# EAGLE library part 61302025721 (library Eagle_BOARD-TO-BOARD_CONNECTORS (rev18b))
WR-PHD 2.54mm Dual Socket Header Bottom Entry, 20 Pins =>Code : Con_BTB_SHD_2.54_2_61302025721 <http://katalog.we-online.de/media/images/eican/Con_BTB_SHD_2.54_2_6130xx25721_pf2.jpg> Details see: http://katalog.we-online.de/en/em/613_0xx_257_21 Created 2014-05-30, Karrer Zheng 2014 (C) Würth Elektronik
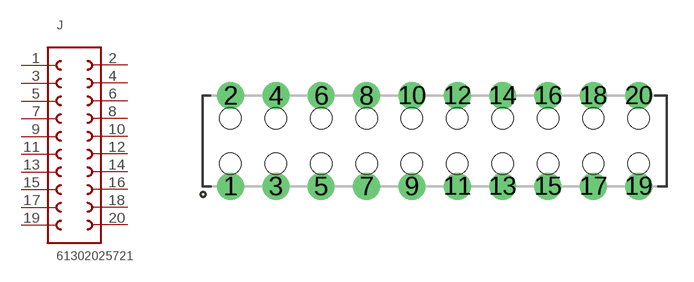
[diagram p157: symbol with the pads of 61302025721; footprint 61302025721]

Designator prefix J

## 61302025721  [61302025721]
1  1  pas
2  20  pas
3  2  pas
4  19  pas
5  3  pas
6  18  pas
7  4  pas
8  17  pas
9  5  pas
10  16  pas
11  6  pas
12  15  pas
13  7  pas
14  14  pas
15  8  pas
16  13  pas
17  9  pas
18  12  pas
19  10  pas
20  11  pas

## Footprint 61302025721 (pad centres in mm)
WR-PHD 2.54mm Dual Socket Header Bottom Entry, 20 Pins
drill 1 pad 1.4: 1 -11.43,-2.54; 2 -11.43,2.54; 3 -8.89,-2.54; 4 -8.89,2.54; 5 -6.35,-2.54; 6 -6.35,2.54; 7 -3.81,-2.54; 8 -3.81,2.54; 9 -1.27,-2.54; 10 -1.27,2.54; 11 1.27,-2.54; 12 1.27,2.54; 13 3.81,-2.54; 14 3.81,2.54; 15 6.35,-2.54; 16 6.35,2.54; 17 8.89,-2.54; 18 8.89,2.54; 19 11.43,-2.54; 20 11.43,2.54
hole 1.2 at -11.43,1.27
hole 1.2 at -8.89,1.27
hole 1.2 at -8.89,-1.27
hole 1.2 at -11.43,-1.27
hole 1.2 at -6.35,-1.27
hole 1.2 at -6.35,1.27
hole 1.2 at -3.81,1.27
hole 1.2 at -3.81,-1.27
hole 1.2 at -1.27,1.27
hole 1.2 at -1.27,-1.27
hole 1.2 at 1.27,-1.27
hole 1.2 at 1.27,1.27
hole 1.2 at 3.81,1.27
hole 1.2 at 3.81,-1.27
hole 1.2 at 6.35,-1.27
hole 1.2 at 6.35,1.27
hole 1.2 at 8.89,-1.27
hole 1.2 at 8.89,1.27
hole 1.2 at 11.43,1.27
hole 1.2 at 11.43,-1.27